# Altium footprint library LIS3DHTR.PcbLib: 1 footprints
Each footprint in its own frame and in the unit in brackets; x right, y up, seen from the top. Pads: shape width x height; smd on the part's side, far side on the other; paste and mask are expansions set on the pad; w line width, h text height; cw(c..) or ccw(c..) is an arc to the next point about the centre after c.
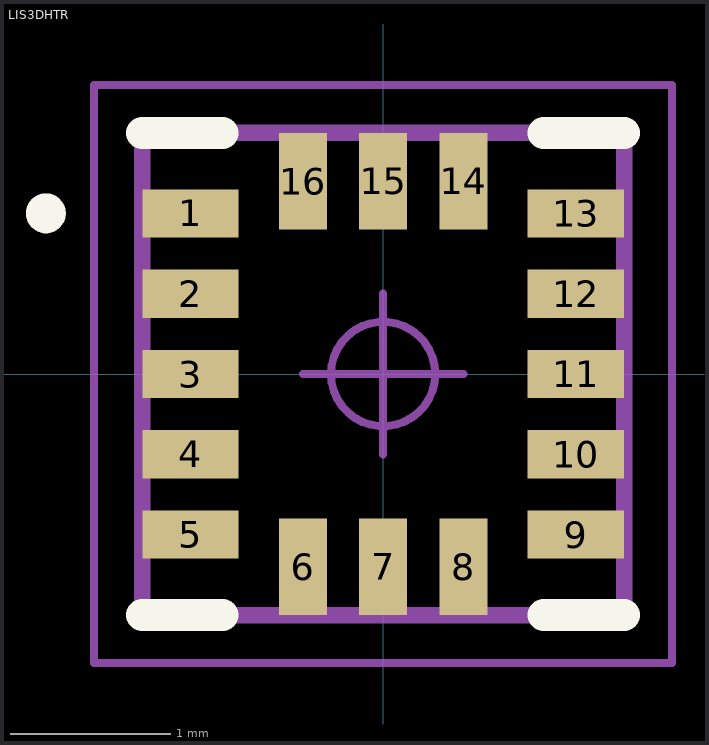
[diagram p0: the footprint, top view; thin cyan lines are the x and y axes]

## LIS3DHTR [mm]
pads (16):
  rect 0.6x0.3 smd: 1(-1.2,1) 2(-1.2,0.5) 3(-1.2,0) 4(-1.2,-0.5) 5(-1.2,-1) 9(1.2,-1) 10(1.2,-0.5) 11(1.2,0) 12(1.2,0.5) 13(1.2,1)
  rect 0.3x0.6 smd: 6(-0.5,-1.2) 7(0,-1.2) 8(0.5,-1.2) 14(0.5,1.2) 15(0,1.2) 16(-0.5,1.2)
Top Overlay:
  lines w0.125: -2.163,1 -2.163,1 ; -2.163,1.001 ccw(c-2.101,1.001) -2.039,1.001 ccw(c-2.101,1.001) -2.163,1.001 ; -2.038,1 -2.038,1
  lines w0.2: -1,-1.5 -1.5,-1.5 ; -1,1.5 -1.5,1.5 ; 1,-1.5 1.5,-1.5 ; 1,1.5 1.5,1.5 ; -1.5,-1.5 -1.5,-1.5 ; -1.5,1.5 -1.5,1.5 ; -1.5,1.5 -1.5,1.5 ; 1.5,-1.5 1.5,-1.5 ; 1.5,1.5 1.5,1.5
Mechanical 15:
  lines w0.1: -1.5,-1.5 1.5,-1.5 1.5,1.5 -1.5,1.5 -1.5,-1.5
Mechanical 20:
  lines w0.05: -0.5,0 0.5,0 ; 0,-0.5 0,0.5 ; -0.325,0 -0.325,0 ; -0.325,0 ccw(c0,0) 0.325,0 ; -0.325,0 cw(c0,0) 0.325,0 ; 0.325,0 0.325,0 ; -1.8,-1.8 1.8,-1.8 1.8,1.8 -1.8,1.8 -1.8,-1.8
Mechanical 21:
  lines w0.001: -1.55,-1.55 1.55,-1.55 1.55,1.55 -1.55,1.55 -1.55,-1.55